# EAGLE library part WE-LAN-10/100-BASE-T,749013011A (library wurth_elektronik_passive_rev16d)
UtLAN 10/100 Base-T SMD Transformer 1 Port WE-LAN - SMD -- Ethernet -- Power over Ethernet -- 1 Gigabit Ethernet -- Compliant with most IC's for ethernet applications like Intel, AMD, Globespan and Realtek -- Hub, Router, Switch <http://katalog.we-online.de/media/images/v2/Family_WE-LAN.jpg> Details see: http://katalog.we-online.de/en/pbs/WE-LAN/S/749010011? 2016 (C) Würth Elektronik
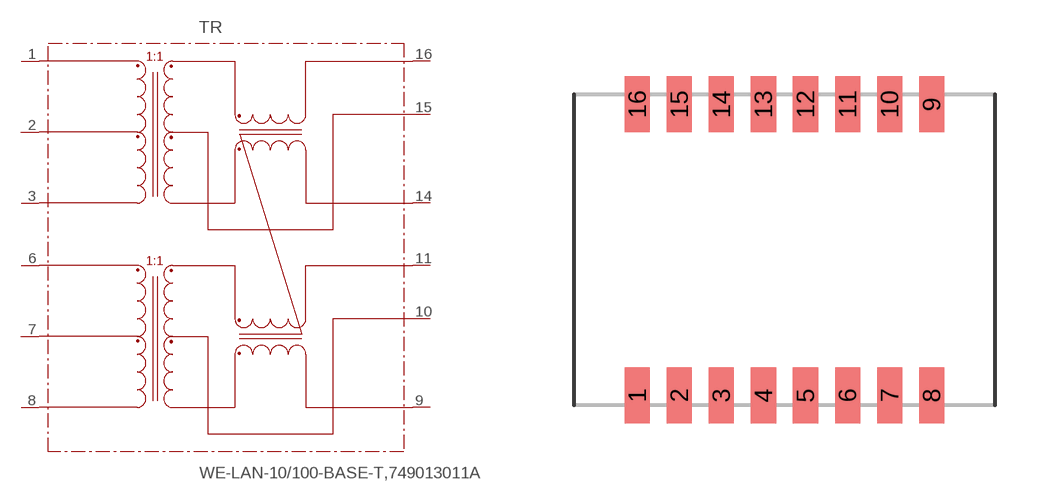
[diagram p242: symbol with the pads of 749013011A; footprint 749013011A]

Designator prefix TR

## WE-LAN-10/100-BASE-T,749013011A  [749013011A]
1  1
2  2
3  3
6  4
7  5
8  6
9  7
10  8
11  9
14  14
15  15
16  16

## Footprint 749013011A (pad centres in mm)
smd 0.76 x 1.7: 1 -4.445,-4.4; 2 -3.175,-4.4; 3 -1.905,-4.4; 4 -0.635,-4.4; 5 0.635,-4.4; 6 1.905,-4.4; 7 3.175,-4.4; 8 4.445,-4.4; 9 4.445,4.4; 10 3.175,4.4; 11 1.905,4.4; 12 0.635,4.4; 13 -0.635,4.4; 14 -1.905,4.4; 15 -3.175,4.4; 16 -4.445,4.4